# EAGLE library part FPC-24WAY (library pimoroni-fpc)
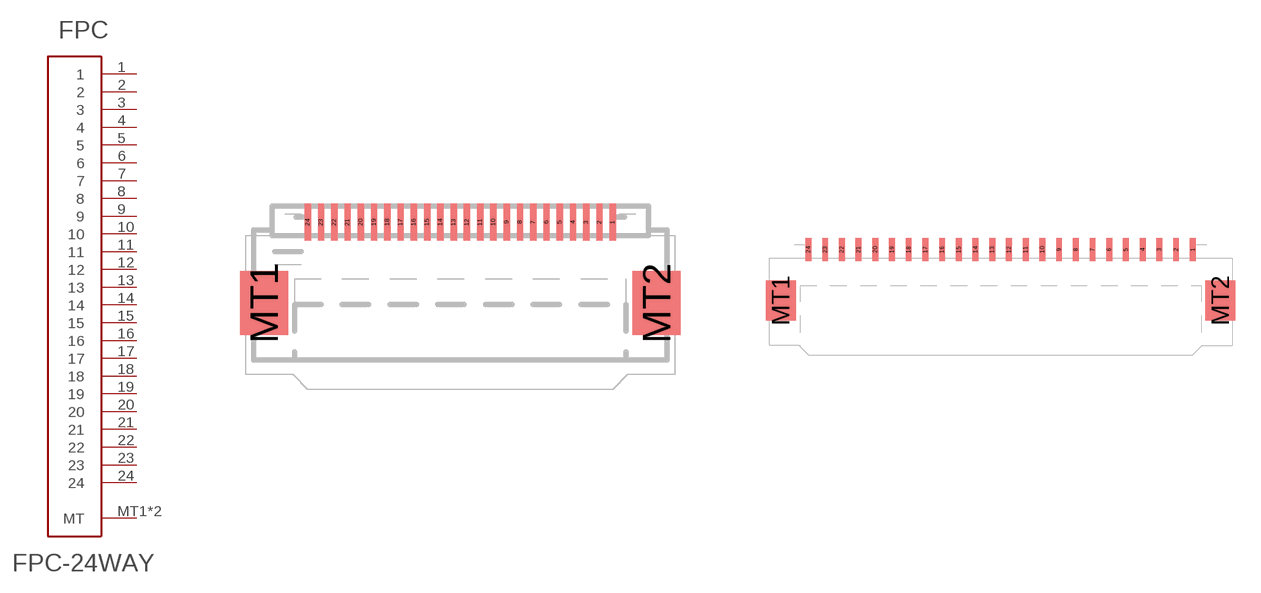
[diagram p19: symbol with the pads of FPC-0.5MM-24WAY; footprints FPC-0.5MM-24WAY, FPC-1.0MM-24WAY]

Designator prefix FPC

## FPC-24WAY0.5  [FPC-0.5MM-24WAY]
1  1
2  2
3  3
4  4
5  5
6  6
7  7
8  8
9  9
10  10
11  11
12  12
13  13
14  14
15  15
16  16
17  17
18  18
19  19
20  20
21  21
22  22
23  23
24  24
MT1  MT
MT2  MT

## FPC-24WAY1.0  [FPC-1.0MM-24WAY]
Pads as for FPC-0.5MM-24WAY

## FPC-24WAY  [FPC-0.5MM-24WAY_H1.0]
Pads as for FPC-0.5MM-24WAY

## Footprint FPC-0.5MM-24WAY (pad centres in mm)
smd 0.24 x 1.4: 1 5.75,0.7; 2 5.25,0.7; 3 4.75,0.7; 4 4.25,0.7; 5 3.75,0.7; 6 3.25,0.7; 7 2.75,0.7; 8 2.25,0.7; 9 1.75,0.7; 10 1.25,0.7; 11 0.75,0.7; 12 0.25,0.7; 13 -0.25,0.7; 14 -0.75,0.7; 15 -1.25,0.7; 16 -1.75,0.7; 17 -2.25,0.7; 18 -2.75,0.7; 19 -3.25,0.7; 20 -3.75,0.7; 21 -4.25,0.7; 22 -4.75,0.7; 23 -5.25,0.7; 24 -5.75,0.7
smd 1.8 x 2.4: MT1 -7.4,-2.35; MT2 7.4,-2.35

## Footprint FPC-1.0MM-24WAY (pad centres in mm)
smd 0.35 x 1.4: 1 11.5,0.7; 2 10.5,0.7; 3 9.5,0.7; 4 8.5,0.7; 5 7.5,0.7; 6 6.5,0.7; 7 5.5,0.7; 8 4.5,0.7; 9 3.5,0.7; 10 2.5,0.7; 11 1.5,0.7; 12 0.5,0.7; 13 -0.5,0.7; 14 -1.5,0.7; 15 -2.5,0.7; 16 -3.5,0.7; 17 -4.5,0.7; 18 -5.5,0.7; 19 -6.5,0.7; 20 -7.5,0.7; 21 -8.5,0.7; 22 -9.5,0.7; 23 -10.5,0.7; 24 -11.5,0.7
smd 1.8 x 2.4: MT1 -13.15,-2.35; MT2 13.15,-2.35

## Footprint FPC-0.5MM-24WAY_H1.0 (pad centres in mm)
smd 0.25 x 0.65: 1 5.75,0.325; 2 5.25,0.325; 3 4.75,0.325; 4 4.25,0.325; 5 3.75,0.325; 6 3.25,0.325; 7 2.75,0.325; 8 2.25,0.325; 9 1.75,0.325; 10 1.25,0.325; 11 0.75,0.325; 12 0.25,0.325; 13 -0.25,0.325; 14 -0.75,0.325; 15 -1.25,0.325; 16 -1.75,0.325; 17 -2.25,0.325; 18 -2.75,0.325; 19 -3.25,0.325; 20 -3.75,0.325; 21 -4.25,0.325; 22 -4.75,0.325; 23 -5.25,0.325; 24 -5.75,0.325
smd 0.4 x 1.15: MT1 -6.635,-2.485; MT2 6.635,-2.485